# EAGLE library part SM10B-SSR-H-TB (library con-jst)
Disconnectable Insulation displacement connector, 1.0mm pitch 10 contacts
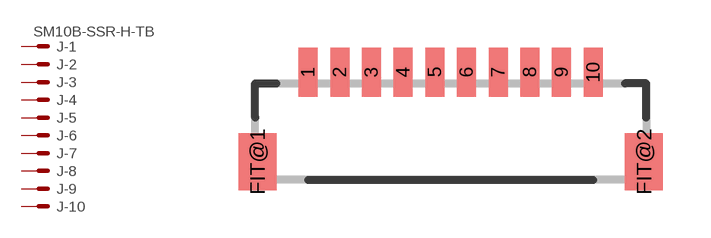
[diagram p36: symbol with the pads of SM10B-SSR-H-TB; footprint SM10B-SSR-H-TB]

Designator prefix J; gates -1=KV -2=K -3=K -4=K -5=K -6=K -7=K -8=K -9=K -10=K

## SM10B-SSR-H-TB  [SM10B-SSR-H-TB]
1  -1:S  pas
2  -2:S  pas
3  -3:S  pas
4  -4:S  pas
5  -5:S  pas
6  -6:S  pas
7  -7:S  pas
8  -8:S  pas
9  -9:S  pas
10  -10:S  pas

## Footprint SM10B-SSR-H-TB (pad centres in mm)
Shrouded Header
smd 0.6 x 1.55: 1 -4.5,1.925; 2 -3.5,1.925; 3 -2.5,1.925; 4 -1.5,1.925; 5 -0.5,1.925; 6 0.5,1.925; 7 1.5,1.925; 8 2.5,1.925; 9 3.5,1.925; 10 4.5,1.925
smd 1.2 x 1.8: FIT@1 -6.1,-0.9; FIT@2 6.1,-0.9